# EAGLE library part LTC6820 (library deiring-components)
SPI Isolated Communications Interface
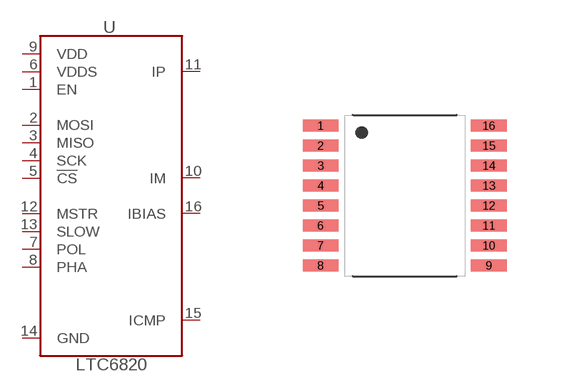
[diagram p35: symbol with the pads of MSOP-16; footprint MSOP-16]

Designator prefix U

## LTC6820-MSOP-16 (LCSC: C514444; MF: Analog Devices; MPN: LTC6820HMS#3ZZTRPBF; VALUE: LTC6820)  [MSOP-16]
1  EN
2  MOSI
3  MISO
4  SCK
5  !CS
6  VDDS
7  POL
8  PHA
9  VDD  pwr
10  IM
11  IP
12  MSTR
13  SLOW
14  GND  pwr
15  ICMP
16  IBIAS

## Footprint MSOP-16 (pad centres in mm)
smd 0.889 x 0.305: 1 -2.106,1.75; 2 -2.106,1.25; 3 -2.106,0.75; 4 -2.106,0.25; 5 -2.106,-0.25; 6 -2.106,-0.75; 7 -2.106,-1.25; 8 -2.106,-1.75; 9 2.106,-1.75; 10 2.106,-1.25; 11 2.106,-0.75; 12 2.106,-0.25; 13 2.106,0.25; 14 2.106,0.75; 15 2.106,1.25; 16 2.106,1.75